# Altium schematic symbol library SIMBOLS_FREQ.SchLib: 10 symbols
Pins are listed as number, name and electrical type; pins without a type are passive.

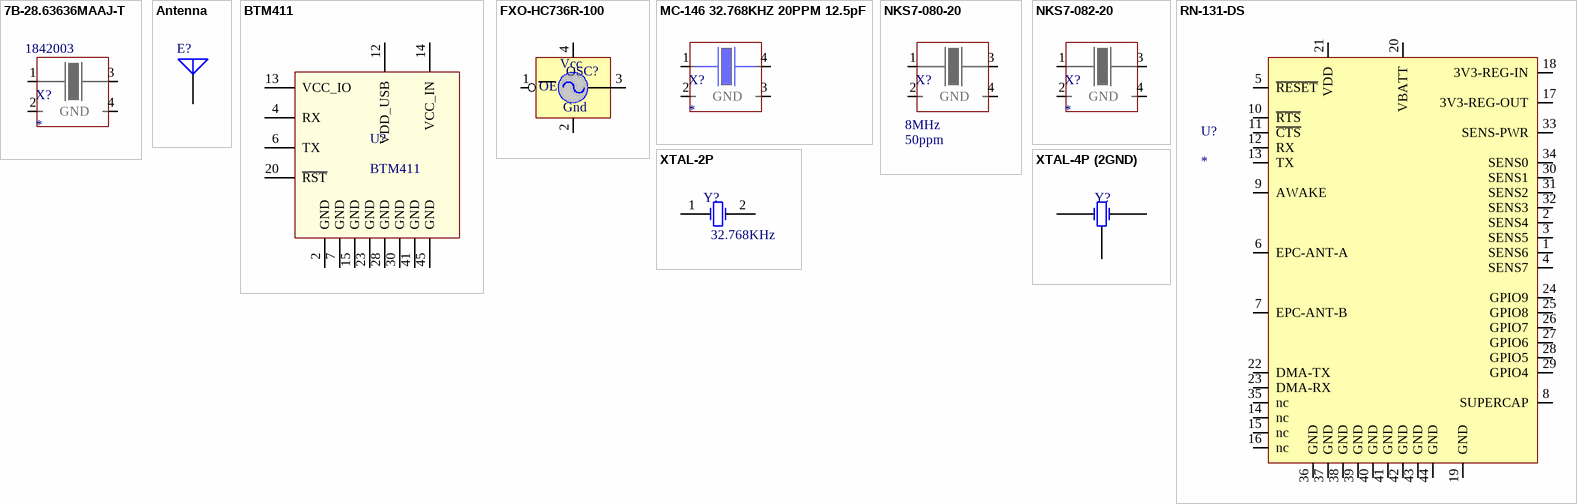
[diagram p0: symbols 7B-28.63636MAAJ-T to XTAL-4P (2GND)]

## 7B-28.63636MAAJ-T
designator X?  Supplier Part Number 1: 1842003
Supplier 1: Farnell
footprint 3.2x5 mm ceramic  package (Miniature Quartz Crystals)
pins: 1 X1, 2 GND, 3 X2, 4 GND

## Antenna
designator E?
Generic Antenna; Published: 24-Mar-1999; LatestRevisionDate: 17-Jul-2002; LatestRevisionNote: Re-released for DXP Platform.; PackageReference: PIN1; Publisher: Altium Limited
footprint PIN1 (Generic Antenna; 1 Lead)
pins: 1 A

## BTM411
designator U?
BTM411 Bluetooth Module
footprint BTM411 (Laird Bluetooth Module)
pins: 2 GND, 4 RX, 6 TX, 7 GND, 12 VDD_USB, 13 VCC_IO, 14 VCC_IN, 15 GND, 20 ~{RST}, 23 GND, 28 GND, 30 GND, 41 GND, 45 GND

## FXO-HC736R-100
designator OSC?  (value not drawn)
OSC., 100 MHZ, 3,3 V, SMD, 25ppm; Supplier 1: Farnell; Supplier Part Number 1: 2064049
footprint 5x7 mm ceramic  package - Alternate pin num (Miniature Quartz Crystals)
pins: 1 ~{OE}, 2 Gnd, 3 Out, 4 Vcc
text: OE

## MC-146 32.768KHZ 20PPM 12.5pF
designator X?
Supplier 1: Farnell; Supplier Part Number 1: 1278038
footprint MC-146
pins: 1 X1, 2 GND, 3 GND, 4 X2

## NKS7-080-20
designator X?  value 8MHz  Tolerance: 50ppm  (hidden comment: *)
footprint 5x7 mm ceramic  package (Miniature Quartz Crystals)
pins: 1 X1, 2 GND, 3 X2, 4 GND

## NKS7-082-20
designator X?
footprint 5x7 mm ceramic  package (Miniature Quartz Crystals)
pins: 1 X1, 2 GND, 3 X2, 4 GND

## RN-131-DS
designator U?
RN-131-DS
footprint RN-131-DS
pins: 1 SENS6, 2 SENS4, 3 SENS5, 4 SENS7, 5 ~{RESET}, 6 EPC-ANT-A, 7 EPC-ANT-B, 8 SUPERCAP, 9 AWAKE, 10 ~{RTS}, 11 ~{CTS}, 12 RX, 13 TX, 14 nc, 15 nc, 16 nc, 17 3V3-REG-OUT, 18 3V3-REG-IN, 19 GND, 20 VBATT, 21 VDD, 22 DMA-TX, 23 DMA-RX, 24 GPIO9, 25 GPIO8, 26 GPIO7, 27 GPIO6, 28 GPIO5, 29 GPIO4, 30 SENS1, 31 SENS2, 32 SENS3, 33 SENS-PWR, 34 SENS0, 35 nc, 36 GND, 37 GND, 38 GND, 39 GND, 40 GND, 41 GND, 42 GND, 43 GND, 44 GND

## XTAL-2P
designator Y?, comment value 32.768KHz  (hidden comment: ECS-.327-12.5-34B)
XTAL
footprint Crystal_3.2x1.5
pins: 1 IO1-1, 2 IO1-1

## XTAL-4P (2GND)
designator Y?, comment 12MHz  (value not drawn)
XTAL; PartNo: 403C35D12M00000; Value: 12MHz
footprint Oscillator 3,2 x 2,5 4pin
pins: 1 IO1-1, 2 IO1-1, 3 IO1-1, 4 IO1-1